# Altium integrated library Renesas Diode.IntLib: 1609 symbols (part 17 of 31)
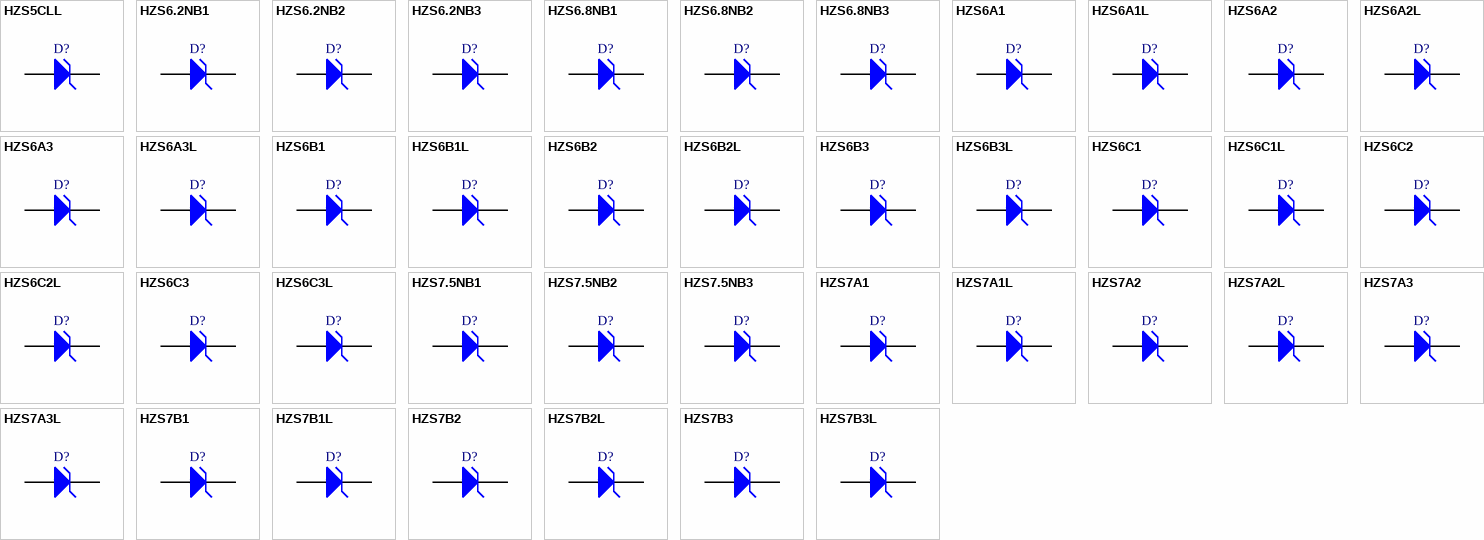
[diagram p61: symbols HZS5CLL to HZS7B3L]

## HZS5CLL
designator D?
Silicon Epitaxial Planar Zener Diode for Hard Knee Low Noise; Published: 12-Feb-2010; DatasheetVersion: Rev.3.00, Nov-2007; PackageVersion: Jul-2006; PackageReference: GRZZ0002ZC-A; Publisher: Altium Limited; PackageDescription: Diode, Axial; Body 2.4 x 2.0 mm (LxDia.), Lead Dia. 0.4 mm (nom); ComponentLink1Description: Manufacturer Link; ComponentLink1URL: http://sg.renesas.com/fmwk.jsp?cnt=diode_landing.jsp&fp=/products/discrete/diodes/; ComponentLink2Description: Datasheet; ComponentLink2URL: http://documentation.renesas.com/eng/products/diode/rej03g0167_hzs_ll.pdf; ComponentLink3Description: Packaging Specification; ComponentLink3URL: http://sg.renesas.com/media/products/common_info/package/pdf/diode/code/grzz0002zc_a.pdf
footprint GRZZ0002ZC-A (Diode, Axial; Body 2.4 x 2.2 mm (LxDia. max), Lead Dia. 0.4 mm (nom))
signal-integrity model HZS5CLL
pins: 1 K, 2 A

## HZS6.2NB1
designator D?
Silicon Epitaxial Planar Zener Diodes for Stabilized Power Supply; Published: 12-Feb-2010; DatasheetVersion: Rev.3.00, Nov-2007; PackageVersion: Jul-2006; PackageReference: GRZZ0002ZC-A; Publisher: Altium Limited; PackageDescription: Diode, Axial; Body 2.4 x 2.0 mm (LxDia.), Lead Dia. 0.4 mm (nom); ComponentLink1Description: Manufacturer Link; ComponentLink1URL: http://sg.renesas.com/fmwk.jsp?cnt=diode_landing.jsp&fp=/products/discrete/diodes/; ComponentLink2Description: Datasheet; ComponentLink2URL: http://documentation.renesas.com/eng/products/diode/rej03g0185_hzs_n.pdf; ComponentLink3Description: Packaging Specification; ComponentLink3URL: http://sg.renesas.com/media/products/common_info/package/pdf/diode/code/grzz0002zc_a.pdf
footprint GRZZ0002ZC-A (Diode, Axial; Body 2.4 x 2.2 mm (LxDia. max), Lead Dia. 0.4 mm (nom))
signal-integrity model HZS6.2NB1
pins: 1 K, 2 A

## HZS6.2NB2
designator D?
Silicon Epitaxial Planar Zener Diodes for Stabilized Power Supply; Published: 12-Feb-2010; DatasheetVersion: Rev.3.00, Nov-2007; PackageVersion: Jul-2006; PackageReference: GRZZ0002ZC-A; Publisher: Altium Limited; PackageDescription: Diode, Axial; Body 2.4 x 2.0 mm (LxDia.), Lead Dia. 0.4 mm (nom); ComponentLink1Description: Manufacturer Link; ComponentLink1URL: http://sg.renesas.com/fmwk.jsp?cnt=diode_landing.jsp&fp=/products/discrete/diodes/; ComponentLink2Description: Datasheet; ComponentLink2URL: http://documentation.renesas.com/eng/products/diode/rej03g0185_hzs_n.pdf; ComponentLink3Description: Packaging Specification; ComponentLink3URL: http://sg.renesas.com/media/products/common_info/package/pdf/diode/code/grzz0002zc_a.pdf
footprint GRZZ0002ZC-A (Diode, Axial; Body 2.4 x 2.2 mm (LxDia. max), Lead Dia. 0.4 mm (nom))
signal-integrity model HZS6.2NB2
pins: 1 K, 2 A

## HZS6.2NB3
designator D?
Silicon Epitaxial Planar Zener Diodes for Stabilized Power Supply; Published: 12-Feb-2010; DatasheetVersion: Rev.3.00, Nov-2007; PackageVersion: Jul-2006; PackageReference: GRZZ0002ZC-A; Publisher: Altium Limited; PackageDescription: Diode, Axial; Body 2.4 x 2.0 mm (LxDia.), Lead Dia. 0.4 mm (nom); ComponentLink1Description: Manufacturer Link; ComponentLink1URL: http://sg.renesas.com/fmwk.jsp?cnt=diode_landing.jsp&fp=/products/discrete/diodes/; ComponentLink2Description: Datasheet; ComponentLink2URL: http://documentation.renesas.com/eng/products/diode/rej03g0185_hzs_n.pdf; ComponentLink3Description: Packaging Specification; ComponentLink3URL: http://sg.renesas.com/media/products/common_info/package/pdf/diode/code/grzz0002zc_a.pdf
footprint GRZZ0002ZC-A (Diode, Axial; Body 2.4 x 2.2 mm (LxDia. max), Lead Dia. 0.4 mm (nom))
signal-integrity model HZS6.2NB3
pins: 1 K, 2 A

## HZS6.8NB1
designator D?
Silicon Epitaxial Planar Zener Diodes for Stabilized Power Supply; Published: 12-Feb-2010; DatasheetVersion: Rev.3.00, Nov-2007; PackageVersion: Jul-2006; PackageReference: GRZZ0002ZC-A; Publisher: Altium Limited; PackageDescription: Diode, Axial; Body 2.4 x 2.0 mm (LxDia.), Lead Dia. 0.4 mm (nom); ComponentLink1Description: Manufacturer Link; ComponentLink1URL: http://sg.renesas.com/fmwk.jsp?cnt=diode_landing.jsp&fp=/products/discrete/diodes/; ComponentLink2Description: Datasheet; ComponentLink2URL: http://documentation.renesas.com/eng/products/diode/rej03g0185_hzs_n.pdf; ComponentLink3Description: Packaging Specification; ComponentLink3URL: http://sg.renesas.com/media/products/common_info/package/pdf/diode/code/grzz0002zc_a.pdf
footprint GRZZ0002ZC-A (Diode, Axial; Body 2.4 x 2.2 mm (LxDia. max), Lead Dia. 0.4 mm (nom))
signal-integrity model HZS6.8NB1
pins: 1 K, 2 A

## HZS6.8NB2
designator D?
Silicon Epitaxial Planar Zener Diodes for Stabilized Power Supply; Published: 12-Feb-2010; DatasheetVersion: Rev.3.00, Nov-2007; PackageVersion: Jul-2006; PackageReference: GRZZ0002ZC-A; Publisher: Altium Limited; PackageDescription: Diode, Axial; Body 2.4 x 2.0 mm (LxDia.), Lead Dia. 0.4 mm (nom); ComponentLink1Description: Manufacturer Link; ComponentLink1URL: http://sg.renesas.com/fmwk.jsp?cnt=diode_landing.jsp&fp=/products/discrete/diodes/; ComponentLink2Description: Datasheet; ComponentLink2URL: http://documentation.renesas.com/eng/products/diode/rej03g0185_hzs_n.pdf; ComponentLink3Description: Packaging Specification; ComponentLink3URL: http://sg.renesas.com/media/products/common_info/package/pdf/diode/code/grzz0002zc_a.pdf
footprint GRZZ0002ZC-A (Diode, Axial; Body 2.4 x 2.2 mm (LxDia. max), Lead Dia. 0.4 mm (nom))
signal-integrity model HZS6.8NB2
pins: 1 K, 2 A

## HZS6.8NB3
designator D?
Silicon Epitaxial Planar Zener Diodes for Stabilized Power Supply; Published: 12-Feb-2010; DatasheetVersion: Rev.3.00, Nov-2007; PackageVersion: Jul-2006; PackageReference: GRZZ0002ZC-A; Publisher: Altium Limited; PackageDescription: Diode, Axial; Body 2.4 x 2.0 mm (LxDia.), Lead Dia. 0.4 mm (nom); ComponentLink1Description: Manufacturer Link; ComponentLink1URL: http://sg.renesas.com/fmwk.jsp?cnt=diode_landing.jsp&fp=/products/discrete/diodes/; ComponentLink2Description: Datasheet; ComponentLink2URL: http://documentation.renesas.com/eng/products/diode/rej03g0185_hzs_n.pdf; ComponentLink3Description: Packaging Specification; ComponentLink3URL: http://sg.renesas.com/media/products/common_info/package/pdf/diode/code/grzz0002zc_a.pdf
footprint GRZZ0002ZC-A (Diode, Axial; Body 2.4 x 2.2 mm (LxDia. max), Lead Dia. 0.4 mm (nom))
signal-integrity model HZS6.8NB3
pins: 1 K, 2 A

## HZS6A1
designator D?
Silicon Epitaxial Planar Zener Diode for Stabilized Power Supply; Published: 12-Feb-2010; DatasheetVersion: Rev.5.00, Oct-2007; PackageVersion: Jul-2006; PackageReference: GRZZ0002ZC-A; Publisher: Altium Limited; PackageDescription: Diode, Axial; Body 2.4 x 2.0 mm (LxDia.), Lead Dia. 0.4 mm (nom); ComponentLink1Description: Manufacturer Link; ComponentLink1URL: http://sg.renesas.com/fmwk.jsp?cnt=diode_landing.jsp&fp=/products/discrete/diodes/; ComponentLink2Description: Datasheet; ComponentLink2URL: http://documentation.renesas.com/eng/products/diode/rej03g0184_hzs.pdf; ComponentLink3Description: Packaging Specification; ComponentLink3URL: http://sg.renesas.com/media/products/common_info/package/pdf/diode/code/grzz0002zc_a.pdf
footprint GRZZ0002ZC-A (Diode, Axial; Body 2.4 x 2.2 mm (LxDia. max), Lead Dia. 0.4 mm (nom))
signal-integrity model HZS6A1
pins: 1 K, 2 A

## HZS6A1L
designator D?
Silicon Epitaxial Planar Zener Diode for Low Noise Application; Published: 12-Feb-2010; DatasheetVersion: Rev.3.00, Nov-2007; PackageVersion: Jul-2006; PackageReference: GRZZ0002ZC-A; Publisher: Altium Limited; PackageDescription: Diode, Axial; Body 2.4 x 2.0 mm (LxDia.), Lead Dia. 0.4 mm (nom); ComponentLink1Description: Manufacturer Link; ComponentLink1URL: http://sg.renesas.com/fmwk.jsp?cnt=diode_landing.jsp&fp=/products/discrete/diodes/; ComponentLink2Description: Datasheet; ComponentLink2URL: http://documentation.renesas.com/eng/products/diode/rej03g0166_hzs_l.pdf; ComponentLink3Description: Packaging Specification; ComponentLink3URL: http://sg.renesas.com/media/products/common_info/package/pdf/diode/code/grzz0002zc_a.pdf
footprint GRZZ0002ZC-A (Diode, Axial; Body 2.4 x 2.2 mm (LxDia. max), Lead Dia. 0.4 mm (nom))
signal-integrity model HZS6A1L
pins: 1 K, 2 A

## HZS6A2
designator D?
Silicon Epitaxial Planar Zener Diode for Stabilized Power Supply; Published: 12-Feb-2010; DatasheetVersion: Rev.5.00, Oct-2007; PackageVersion: Jul-2006; PackageReference: GRZZ0002ZC-A; Publisher: Altium Limited; PackageDescription: Diode, Axial; Body 2.4 x 2.0 mm (LxDia.), Lead Dia. 0.4 mm (nom); ComponentLink1Description: Manufacturer Link; ComponentLink1URL: http://sg.renesas.com/fmwk.jsp?cnt=diode_landing.jsp&fp=/products/discrete/diodes/; ComponentLink2Description: Datasheet; ComponentLink2URL: http://documentation.renesas.com/eng/products/diode/rej03g0184_hzs.pdf; ComponentLink3Description: Packaging Specification; ComponentLink3URL: http://sg.renesas.com/media/products/common_info/package/pdf/diode/code/grzz0002zc_a.pdf
footprint GRZZ0002ZC-A (Diode, Axial; Body 2.4 x 2.2 mm (LxDia. max), Lead Dia. 0.4 mm (nom))
signal-integrity model HZS6A2
pins: 1 K, 2 A

## HZS6A2L
designator D?
Silicon Epitaxial Planar Zener Diode for Low Noise Application; Published: 12-Feb-2010; DatasheetVersion: Rev.3.00, Nov-2007; PackageVersion: Jul-2006; PackageReference: GRZZ0002ZC-A; Publisher: Altium Limited; PackageDescription: Diode, Axial; Body 2.4 x 2.0 mm (LxDia.), Lead Dia. 0.4 mm (nom); ComponentLink1Description: Manufacturer Link; ComponentLink1URL: http://sg.renesas.com/fmwk.jsp?cnt=diode_landing.jsp&fp=/products/discrete/diodes/; ComponentLink2Description: Datasheet; ComponentLink2URL: http://documentation.renesas.com/eng/products/diode/rej03g0166_hzs_l.pdf; ComponentLink3Description: Packaging Specification; ComponentLink3URL: http://sg.renesas.com/media/products/common_info/package/pdf/diode/code/grzz0002zc_a.pdf
footprint GRZZ0002ZC-A (Diode, Axial; Body 2.4 x 2.2 mm (LxDia. max), Lead Dia. 0.4 mm (nom))
signal-integrity model HZS6A2L
pins: 1 K, 2 A

## HZS6A3
designator D?
Silicon Epitaxial Planar Zener Diode for Stabilized Power Supply; Published: 12-Feb-2010; DatasheetVersion: Rev.5.00, Oct-2007; PackageVersion: Jul-2006; PackageReference: GRZZ0002ZC-A; Publisher: Altium Limited; PackageDescription: Diode, Axial; Body 2.4 x 2.0 mm (LxDia.), Lead Dia. 0.4 mm (nom); ComponentLink1Description: Manufacturer Link; ComponentLink1URL: http://sg.renesas.com/fmwk.jsp?cnt=diode_landing.jsp&fp=/products/discrete/diodes/; ComponentLink2Description: Datasheet; ComponentLink2URL: http://documentation.renesas.com/eng/products/diode/rej03g0184_hzs.pdf; ComponentLink3Description: Packaging Specification; ComponentLink3URL: http://sg.renesas.com/media/products/common_info/package/pdf/diode/code/grzz0002zc_a.pdf
footprint GRZZ0002ZC-A (Diode, Axial; Body 2.4 x 2.2 mm (LxDia. max), Lead Dia. 0.4 mm (nom))
signal-integrity model HZS6A3
pins: 1 K, 2 A

## HZS6A3L
designator D?
Silicon Epitaxial Planar Zener Diode for Low Noise Application; Published: 12-Feb-2010; DatasheetVersion: Rev.3.00, Nov-2007; PackageVersion: Jul-2006; PackageReference: GRZZ0002ZC-A; Publisher: Altium Limited; PackageDescription: Diode, Axial; Body 2.4 x 2.0 mm (LxDia.), Lead Dia. 0.4 mm (nom); ComponentLink1Description: Manufacturer Link; ComponentLink1URL: http://sg.renesas.com/fmwk.jsp?cnt=diode_landing.jsp&fp=/products/discrete/diodes/; ComponentLink2Description: Datasheet; ComponentLink2URL: http://documentation.renesas.com/eng/products/diode/rej03g0166_hzs_l.pdf; ComponentLink3Description: Packaging Specification; ComponentLink3URL: http://sg.renesas.com/media/products/common_info/package/pdf/diode/code/grzz0002zc_a.pdf
footprint GRZZ0002ZC-A (Diode, Axial; Body 2.4 x 2.2 mm (LxDia. max), Lead Dia. 0.4 mm (nom))
signal-integrity model HZS6A3L
pins: 1 K, 2 A

## HZS6B1
designator D?
Silicon Epitaxial Planar Zener Diode for Stabilized Power Supply; Published: 12-Feb-2010; DatasheetVersion: Rev.5.00, Oct-2007; PackageVersion: Jul-2006; PackageReference: GRZZ0002ZC-A; Publisher: Altium Limited; PackageDescription: Diode, Axial; Body 2.4 x 2.0 mm (LxDia.), Lead Dia. 0.4 mm (nom); ComponentLink1Description: Manufacturer Link; ComponentLink1URL: http://sg.renesas.com/fmwk.jsp?cnt=diode_landing.jsp&fp=/products/discrete/diodes/; ComponentLink2Description: Datasheet; ComponentLink2URL: http://documentation.renesas.com/eng/products/diode/rej03g0184_hzs.pdf; ComponentLink3Description: Packaging Specification; ComponentLink3URL: http://sg.renesas.com/media/products/common_info/package/pdf/diode/code/grzz0002zc_a.pdf
footprint GRZZ0002ZC-A (Diode, Axial; Body 2.4 x 2.2 mm (LxDia. max), Lead Dia. 0.4 mm (nom))
signal-integrity model HZS6B1
pins: 1 K, 2 A

## HZS6B1L
designator D?
Silicon Epitaxial Planar Zener Diode for Low Noise Application; Published: 12-Feb-2010; DatasheetVersion: Rev.3.00, Nov-2007; PackageVersion: Jul-2006; PackageReference: GRZZ0002ZC-A; Publisher: Altium Limited; PackageDescription: Diode, Axial; Body 2.4 x 2.0 mm (LxDia.), Lead Dia. 0.4 mm (nom); ComponentLink1Description: Manufacturer Link; ComponentLink1URL: http://sg.renesas.com/fmwk.jsp?cnt=diode_landing.jsp&fp=/products/discrete/diodes/; ComponentLink2Description: Datasheet; ComponentLink2URL: http://documentation.renesas.com/eng/products/diode/rej03g0166_hzs_l.pdf; ComponentLink3Description: Packaging Specification; ComponentLink3URL: http://sg.renesas.com/media/products/common_info/package/pdf/diode/code/grzz0002zc_a.pdf
footprint GRZZ0002ZC-A (Diode, Axial; Body 2.4 x 2.2 mm (LxDia. max), Lead Dia. 0.4 mm (nom))
signal-integrity model HZS6B1L
pins: 1 K, 2 A

## HZS6B2
designator D?
Silicon Epitaxial Planar Zener Diode for Stabilized Power Supply; Published: 12-Feb-2010; DatasheetVersion: Rev.5.00, Oct-2007; PackageVersion: Jul-2006; PackageReference: GRZZ0002ZC-A; Publisher: Altium Limited; PackageDescription: Diode, Axial; Body 2.4 x 2.0 mm (LxDia.), Lead Dia. 0.4 mm (nom); ComponentLink1Description: Manufacturer Link; ComponentLink1URL: http://sg.renesas.com/fmwk.jsp?cnt=diode_landing.jsp&fp=/products/discrete/diodes/; ComponentLink2Description: Datasheet; ComponentLink2URL: http://documentation.renesas.com/eng/products/diode/rej03g0184_hzs.pdf; ComponentLink3Description: Packaging Specification; ComponentLink3URL: http://sg.renesas.com/media/products/common_info/package/pdf/diode/code/grzz0002zc_a.pdf
footprint GRZZ0002ZC-A (Diode, Axial; Body 2.4 x 2.2 mm (LxDia. max), Lead Dia. 0.4 mm (nom))
signal-integrity model HZS6B2
pins: 1 K, 2 A

## HZS6B2L
designator D?
Silicon Epitaxial Planar Zener Diode for Low Noise Application; Published: 12-Feb-2010; DatasheetVersion: Rev.3.00, Nov-2007; PackageVersion: Jul-2006; PackageReference: GRZZ0002ZC-A; Publisher: Altium Limited; PackageDescription: Diode, Axial; Body 2.4 x 2.0 mm (LxDia.), Lead Dia. 0.4 mm (nom); ComponentLink1Description: Manufacturer Link; ComponentLink1URL: http://sg.renesas.com/fmwk.jsp?cnt=diode_landing.jsp&fp=/products/discrete/diodes/; ComponentLink2Description: Datasheet; ComponentLink2URL: http://documentation.renesas.com/eng/products/diode/rej03g0166_hzs_l.pdf; ComponentLink3Description: Packaging Specification; ComponentLink3URL: http://sg.renesas.com/media/products/common_info/package/pdf/diode/code/grzz0002zc_a.pdf
footprint GRZZ0002ZC-A (Diode, Axial; Body 2.4 x 2.2 mm (LxDia. max), Lead Dia. 0.4 mm (nom))
signal-integrity model HZS6B2L
pins: 1 K, 2 A

## HZS6B3
designator D?
Silicon Epitaxial Planar Zener Diode for Stabilized Power Supply; Published: 12-Feb-2010; DatasheetVersion: Rev.5.00, Oct-2007; PackageVersion: Jul-2006; PackageReference: GRZZ0002ZC-A; Publisher: Altium Limited; PackageDescription: Diode, Axial; Body 2.4 x 2.0 mm (LxDia.), Lead Dia. 0.4 mm (nom); ComponentLink1Description: Manufacturer Link; ComponentLink1URL: http://sg.renesas.com/fmwk.jsp?cnt=diode_landing.jsp&fp=/products/discrete/diodes/; ComponentLink2Description: Datasheet; ComponentLink2URL: http://documentation.renesas.com/eng/products/diode/rej03g0184_hzs.pdf; ComponentLink3Description: Packaging Specification; ComponentLink3URL: http://sg.renesas.com/media/products/common_info/package/pdf/diode/code/grzz0002zc_a.pdf
footprint GRZZ0002ZC-A (Diode, Axial; Body 2.4 x 2.2 mm (LxDia. max), Lead Dia. 0.4 mm (nom))
signal-integrity model HZS6B3
pins: 1 K, 2 A

## HZS6B3L
designator D?
Silicon Epitaxial Planar Zener Diode for Low Noise Application; Published: 12-Feb-2010; DatasheetVersion: Rev.3.00, Nov-2007; PackageVersion: Jul-2006; PackageReference: GRZZ0002ZC-A; Publisher: Altium Limited; PackageDescription: Diode, Axial; Body 2.4 x 2.0 mm (LxDia.), Lead Dia. 0.4 mm (nom); ComponentLink1Description: Manufacturer Link; ComponentLink1URL: http://sg.renesas.com/fmwk.jsp?cnt=diode_landing.jsp&fp=/products/discrete/diodes/; ComponentLink2Description: Datasheet; ComponentLink2URL: http://documentation.renesas.com/eng/products/diode/rej03g0166_hzs_l.pdf; ComponentLink3Description: Packaging Specification; ComponentLink3URL: http://sg.renesas.com/media/products/common_info/package/pdf/diode/code/grzz0002zc_a.pdf
footprint GRZZ0002ZC-A (Diode, Axial; Body 2.4 x 2.2 mm (LxDia. max), Lead Dia. 0.4 mm (nom))
signal-integrity model HZS6B3L
pins: 1 K, 2 A

## HZS6C1
designator D?
Silicon Epitaxial Planar Zener Diode for Stabilized Power Supply; Published: 12-Feb-2010; DatasheetVersion: Rev.5.00, Oct-2007; PackageVersion: Jul-2006; PackageReference: GRZZ0002ZC-A; Publisher: Altium Limited; PackageDescription: Diode, Axial; Body 2.4 x 2.0 mm (LxDia.), Lead Dia. 0.4 mm (nom); ComponentLink1Description: Manufacturer Link; ComponentLink1URL: http://sg.renesas.com/fmwk.jsp?cnt=diode_landing.jsp&fp=/products/discrete/diodes/; ComponentLink2Description: Datasheet; ComponentLink2URL: http://documentation.renesas.com/eng/products/diode/rej03g0184_hzs.pdf; ComponentLink3Description: Packaging Specification; ComponentLink3URL: http://sg.renesas.com/media/products/common_info/package/pdf/diode/code/grzz0002zc_a.pdf
footprint GRZZ0002ZC-A (Diode, Axial; Body 2.4 x 2.2 mm (LxDia. max), Lead Dia. 0.4 mm (nom))
signal-integrity model HZS6C1
pins: 1 K, 2 A

## HZS6C1L
designator D?
Silicon Epitaxial Planar Zener Diode for Low Noise Application; Published: 12-Feb-2010; DatasheetVersion: Rev.3.00, Nov-2007; PackageVersion: Jul-2006; PackageReference: GRZZ0002ZC-A; Publisher: Altium Limited; PackageDescription: Diode, Axial; Body 2.4 x 2.0 mm (LxDia.), Lead Dia. 0.4 mm (nom); ComponentLink1Description: Manufacturer Link; ComponentLink1URL: http://sg.renesas.com/fmwk.jsp?cnt=diode_landing.jsp&fp=/products/discrete/diodes/; ComponentLink2Description: Datasheet; ComponentLink2URL: http://documentation.renesas.com/eng/products/diode/rej03g0166_hzs_l.pdf; ComponentLink3Description: Packaging Specification; ComponentLink3URL: http://sg.renesas.com/media/products/common_info/package/pdf/diode/code/grzz0002zc_a.pdf
footprint GRZZ0002ZC-A (Diode, Axial; Body 2.4 x 2.2 mm (LxDia. max), Lead Dia. 0.4 mm (nom))
signal-integrity model HZS6C1L
pins: 1 K, 2 A

## HZS6C2
designator D?
Silicon Epitaxial Planar Zener Diode for Stabilized Power Supply; Published: 12-Feb-2010; DatasheetVersion: Rev.5.00, Oct-2007; PackageVersion: Jul-2006; PackageReference: GRZZ0002ZC-A; Publisher: Altium Limited; PackageDescription: Diode, Axial; Body 2.4 x 2.0 mm (LxDia.), Lead Dia. 0.4 mm (nom); ComponentLink1Description: Manufacturer Link; ComponentLink1URL: http://sg.renesas.com/fmwk.jsp?cnt=diode_landing.jsp&fp=/products/discrete/diodes/; ComponentLink2Description: Datasheet; ComponentLink2URL: http://documentation.renesas.com/eng/products/diode/rej03g0184_hzs.pdf; ComponentLink3Description: Packaging Specification; ComponentLink3URL: http://sg.renesas.com/media/products/common_info/package/pdf/diode/code/grzz0002zc_a.pdf
footprint GRZZ0002ZC-A (Diode, Axial; Body 2.4 x 2.2 mm (LxDia. max), Lead Dia. 0.4 mm (nom))
signal-integrity model HZS6C2
pins: 1 K, 2 A

## HZS6C2L
designator D?
Silicon Epitaxial Planar Zener Diode for Low Noise Application; Published: 12-Feb-2010; DatasheetVersion: Rev.3.00, Nov-2007; PackageVersion: Jul-2006; PackageReference: GRZZ0002ZC-A; Publisher: Altium Limited; PackageDescription: Diode, Axial; Body 2.4 x 2.0 mm (LxDia.), Lead Dia. 0.4 mm (nom); ComponentLink1Description: Manufacturer Link; ComponentLink1URL: http://sg.renesas.com/fmwk.jsp?cnt=diode_landing.jsp&fp=/products/discrete/diodes/; ComponentLink2Description: Datasheet; ComponentLink2URL: http://documentation.renesas.com/eng/products/diode/rej03g0166_hzs_l.pdf; ComponentLink3Description: Packaging Specification; ComponentLink3URL: http://sg.renesas.com/media/products/common_info/package/pdf/diode/code/grzz0002zc_a.pdf
footprint GRZZ0002ZC-A (Diode, Axial; Body 2.4 x 2.2 mm (LxDia. max), Lead Dia. 0.4 mm (nom))
signal-integrity model HZS6C2L
pins: 1 K, 2 A

## HZS6C3
designator D?
Silicon Epitaxial Planar Zener Diode for Stabilized Power Supply; Published: 12-Feb-2010; DatasheetVersion: Rev.5.00, Oct-2007; PackageVersion: Jul-2006; PackageReference: GRZZ0002ZC-A; Publisher: Altium Limited; PackageDescription: Diode, Axial; Body 2.4 x 2.0 mm (LxDia.), Lead Dia. 0.4 mm (nom); ComponentLink1Description: Manufacturer Link; ComponentLink1URL: http://sg.renesas.com/fmwk.jsp?cnt=diode_landing.jsp&fp=/products/discrete/diodes/; ComponentLink2Description: Datasheet; ComponentLink2URL: http://documentation.renesas.com/eng/products/diode/rej03g0184_hzs.pdf; ComponentLink3Description: Packaging Specification; ComponentLink3URL: http://sg.renesas.com/media/products/common_info/package/pdf/diode/code/grzz0002zc_a.pdf
footprint GRZZ0002ZC-A (Diode, Axial; Body 2.4 x 2.2 mm (LxDia. max), Lead Dia. 0.4 mm (nom))
signal-integrity model HZS6C3
pins: 1 K, 2 A

## HZS6C3L
designator D?
Silicon Epitaxial Planar Zener Diode for Low Noise Application; Published: 12-Feb-2010; DatasheetVersion: Rev.3.00, Nov-2007; PackageVersion: Jul-2006; PackageReference: GRZZ0002ZC-A; Publisher: Altium Limited; PackageDescription: Diode, Axial; Body 2.4 x 2.0 mm (LxDia.), Lead Dia. 0.4 mm (nom); ComponentLink1Description: Manufacturer Link; ComponentLink1URL: http://sg.renesas.com/fmwk.jsp?cnt=diode_landing.jsp&fp=/products/discrete/diodes/; ComponentLink2Description: Datasheet; ComponentLink2URL: http://documentation.renesas.com/eng/products/diode/rej03g0166_hzs_l.pdf; ComponentLink3Description: Packaging Specification; ComponentLink3URL: http://sg.renesas.com/media/products/common_info/package/pdf/diode/code/grzz0002zc_a.pdf
footprint GRZZ0002ZC-A (Diode, Axial; Body 2.4 x 2.2 mm (LxDia. max), Lead Dia. 0.4 mm (nom))
signal-integrity model HZS6C3L
pins: 1 K, 2 A

## HZS7.5NB1
designator D?
Silicon Epitaxial Planar Zener Diodes for Stabilized Power Supply; Published: 12-Feb-2010; DatasheetVersion: Rev.3.00, Nov-2007; PackageVersion: Jul-2006; PackageReference: GRZZ0002ZC-A; Publisher: Altium Limited; PackageDescription: Diode, Axial; Body 2.4 x 2.0 mm (LxDia.), Lead Dia. 0.4 mm (nom); ComponentLink1Description: Manufacturer Link; ComponentLink1URL: http://sg.renesas.com/fmwk.jsp?cnt=diode_landing.jsp&fp=/products/discrete/diodes/; ComponentLink2Description: Datasheet; ComponentLink2URL: http://documentation.renesas.com/eng/products/diode/rej03g0185_hzs_n.pdf; ComponentLink3Description: Packaging Specification; ComponentLink3URL: http://sg.renesas.com/media/products/common_info/package/pdf/diode/code/grzz0002zc_a.pdf
footprint GRZZ0002ZC-A (Diode, Axial; Body 2.4 x 2.2 mm (LxDia. max), Lead Dia. 0.4 mm (nom))
signal-integrity model HZS7.5NB1
pins: 1 K, 2 A

## HZS7.5NB2
designator D?
Silicon Epitaxial Planar Zener Diodes for Stabilized Power Supply; Published: 12-Feb-2010; DatasheetVersion: Rev.3.00, Nov-2007; PackageVersion: Jul-2006; PackageReference: GRZZ0002ZC-A; Publisher: Altium Limited; PackageDescription: Diode, Axial; Body 2.4 x 2.0 mm (LxDia.), Lead Dia. 0.4 mm (nom); ComponentLink1Description: Manufacturer Link; ComponentLink1URL: http://sg.renesas.com/fmwk.jsp?cnt=diode_landing.jsp&fp=/products/discrete/diodes/; ComponentLink2Description: Datasheet; ComponentLink2URL: http://documentation.renesas.com/eng/products/diode/rej03g0185_hzs_n.pdf; ComponentLink3Description: Packaging Specification; ComponentLink3URL: http://sg.renesas.com/media/products/common_info/package/pdf/diode/code/grzz0002zc_a.pdf
footprint GRZZ0002ZC-A (Diode, Axial; Body 2.4 x 2.2 mm (LxDia. max), Lead Dia. 0.4 mm (nom))
signal-integrity model HZS7.5NB2
pins: 1 K, 2 A

## HZS7.5NB3
designator D?
Silicon Epitaxial Planar Zener Diodes for Stabilized Power Supply; Published: 12-Feb-2010; DatasheetVersion: Rev.3.00, Nov-2007; PackageVersion: Jul-2006; PackageReference: GRZZ0002ZC-A; Publisher: Altium Limited; PackageDescription: Diode, Axial; Body 2.4 x 2.0 mm (LxDia.), Lead Dia. 0.4 mm (nom); ComponentLink1Description: Manufacturer Link; ComponentLink1URL: http://sg.renesas.com/fmwk.jsp?cnt=diode_landing.jsp&fp=/products/discrete/diodes/; ComponentLink2Description: Datasheet; ComponentLink2URL: http://documentation.renesas.com/eng/products/diode/rej03g0185_hzs_n.pdf; ComponentLink3Description: Packaging Specification; ComponentLink3URL: http://sg.renesas.com/media/products/common_info/package/pdf/diode/code/grzz0002zc_a.pdf
footprint GRZZ0002ZC-A (Diode, Axial; Body 2.4 x 2.2 mm (LxDia. max), Lead Dia. 0.4 mm (nom))
signal-integrity model HZS7.5NB3
pins: 1 K, 2 A

## HZS7A1
designator D?
Silicon Epitaxial Planar Zener Diode for Stabilized Power Supply; Published: 12-Feb-2010; DatasheetVersion: Rev.5.00, Oct-2007; PackageVersion: Jul-2006; PackageReference: GRZZ0002ZC-A; Publisher: Altium Limited; PackageDescription: Diode, Axial; Body 2.4 x 2.0 mm (LxDia.), Lead Dia. 0.4 mm (nom); ComponentLink1Description: Manufacturer Link; ComponentLink1URL: http://sg.renesas.com/fmwk.jsp?cnt=diode_landing.jsp&fp=/products/discrete/diodes/; ComponentLink2Description: Datasheet; ComponentLink2URL: http://documentation.renesas.com/eng/products/diode/rej03g0184_hzs.pdf; ComponentLink3Description: Packaging Specification; ComponentLink3URL: http://sg.renesas.com/media/products/common_info/package/pdf/diode/code/grzz0002zc_a.pdf
footprint GRZZ0002ZC-A (Diode, Axial; Body 2.4 x 2.2 mm (LxDia. max), Lead Dia. 0.4 mm (nom))
signal-integrity model HZS7A1
pins: 1 K, 2 A

## HZS7A1L
designator D?
Silicon Epitaxial Planar Zener Diode for Low Noise Application; Published: 12-Feb-2010; DatasheetVersion: Rev.3.00, Nov-2007; PackageVersion: Jul-2006; PackageReference: GRZZ0002ZC-A; Publisher: Altium Limited; PackageDescription: Diode, Axial; Body 2.4 x 2.0 mm (LxDia.), Lead Dia. 0.4 mm (nom); ComponentLink1Description: Manufacturer Link; ComponentLink1URL: http://sg.renesas.com/fmwk.jsp?cnt=diode_landing.jsp&fp=/products/discrete/diodes/; ComponentLink2Description: Datasheet; ComponentLink2URL: http://documentation.renesas.com/eng/products/diode/rej03g0166_hzs_l.pdf; ComponentLink3Description: Packaging Specification; ComponentLink3URL: http://sg.renesas.com/media/products/common_info/package/pdf/diode/code/grzz0002zc_a.pdf
footprint GRZZ0002ZC-A (Diode, Axial; Body 2.4 x 2.2 mm (LxDia. max), Lead Dia. 0.4 mm (nom))
signal-integrity model HZS7A1L
pins: 1 K, 2 A

## HZS7A2
designator D?
Silicon Epitaxial Planar Zener Diode for Stabilized Power Supply; Published: 12-Feb-2010; DatasheetVersion: Rev.5.00, Oct-2007; PackageVersion: Jul-2006; PackageReference: GRZZ0002ZC-A; Publisher: Altium Limited; PackageDescription: Diode, Axial; Body 2.4 x 2.0 mm (LxDia.), Lead Dia. 0.4 mm (nom); ComponentLink1Description: Manufacturer Link; ComponentLink1URL: http://sg.renesas.com/fmwk.jsp?cnt=diode_landing.jsp&fp=/products/discrete/diodes/; ComponentLink2Description: Datasheet; ComponentLink2URL: http://documentation.renesas.com/eng/products/diode/rej03g0184_hzs.pdf; ComponentLink3Description: Packaging Specification; ComponentLink3URL: http://sg.renesas.com/media/products/common_info/package/pdf/diode/code/grzz0002zc_a.pdf
footprint GRZZ0002ZC-A (Diode, Axial; Body 2.4 x 2.2 mm (LxDia. max), Lead Dia. 0.4 mm (nom))
signal-integrity model HZS7A2
pins: 1 K, 2 A

## HZS7A2L
designator D?
Silicon Epitaxial Planar Zener Diode for Low Noise Application; Published: 12-Feb-2010; DatasheetVersion: Rev.3.00, Nov-2007; PackageVersion: Jul-2006; PackageReference: GRZZ0002ZC-A; Publisher: Altium Limited; PackageDescription: Diode, Axial; Body 2.4 x 2.0 mm (LxDia.), Lead Dia. 0.4 mm (nom); ComponentLink1Description: Manufacturer Link; ComponentLink1URL: http://sg.renesas.com/fmwk.jsp?cnt=diode_landing.jsp&fp=/products/discrete/diodes/; ComponentLink2Description: Datasheet; ComponentLink2URL: http://documentation.renesas.com/eng/products/diode/rej03g0166_hzs_l.pdf; ComponentLink3Description: Packaging Specification; ComponentLink3URL: http://sg.renesas.com/media/products/common_info/package/pdf/diode/code/grzz0002zc_a.pdf
footprint GRZZ0002ZC-A (Diode, Axial; Body 2.4 x 2.2 mm (LxDia. max), Lead Dia. 0.4 mm (nom))
signal-integrity model HZS7A2L
pins: 1 K, 2 A

## HZS7A3
designator D?
Silicon Epitaxial Planar Zener Diode for Stabilized Power Supply; Published: 12-Feb-2010; DatasheetVersion: Rev.5.00, Oct-2007; PackageVersion: Jul-2006; PackageReference: GRZZ0002ZC-A; Publisher: Altium Limited; PackageDescription: Diode, Axial; Body 2.4 x 2.0 mm (LxDia.), Lead Dia. 0.4 mm (nom); ComponentLink1Description: Manufacturer Link; ComponentLink1URL: http://sg.renesas.com/fmwk.jsp?cnt=diode_landing.jsp&fp=/products/discrete/diodes/; ComponentLink2Description: Datasheet; ComponentLink2URL: http://documentation.renesas.com/eng/products/diode/rej03g0184_hzs.pdf; ComponentLink3Description: Packaging Specification; ComponentLink3URL: http://sg.renesas.com/media/products/common_info/package/pdf/diode/code/grzz0002zc_a.pdf
footprint GRZZ0002ZC-A (Diode, Axial; Body 2.4 x 2.2 mm (LxDia. max), Lead Dia. 0.4 mm (nom))
signal-integrity model HZS7A3
pins: 1 K, 2 A

## HZS7A3L
designator D?
Silicon Epitaxial Planar Zener Diode for Low Noise Application; Published: 12-Feb-2010; DatasheetVersion: Rev.3.00, Nov-2007; PackageVersion: Jul-2006; PackageReference: GRZZ0002ZC-A; Publisher: Altium Limited; PackageDescription: Diode, Axial; Body 2.4 x 2.0 mm (LxDia.), Lead Dia. 0.4 mm (nom); ComponentLink1Description: Manufacturer Link; ComponentLink1URL: http://sg.renesas.com/fmwk.jsp?cnt=diode_landing.jsp&fp=/products/discrete/diodes/; ComponentLink2Description: Datasheet; ComponentLink2URL: http://documentation.renesas.com/eng/products/diode/rej03g0166_hzs_l.pdf; ComponentLink3Description: Packaging Specification; ComponentLink3URL: http://sg.renesas.com/media/products/common_info/package/pdf/diode/code/grzz0002zc_a.pdf
footprint GRZZ0002ZC-A (Diode, Axial; Body 2.4 x 2.2 mm (LxDia. max), Lead Dia. 0.4 mm (nom))
signal-integrity model HZS7A3L
pins: 1 K, 2 A

## HZS7B1
designator D?
Silicon Epitaxial Planar Zener Diode for Stabilized Power Supply; Published: 12-Feb-2010; DatasheetVersion: Rev.5.00, Oct-2007; PackageVersion: Jul-2006; PackageReference: GRZZ0002ZC-A; Publisher: Altium Limited; PackageDescription: Diode, Axial; Body 2.4 x 2.0 mm (LxDia.), Lead Dia. 0.4 mm (nom); ComponentLink1Description: Manufacturer Link; ComponentLink1URL: http://sg.renesas.com/fmwk.jsp?cnt=diode_landing.jsp&fp=/products/discrete/diodes/; ComponentLink2Description: Datasheet; ComponentLink2URL: http://documentation.renesas.com/eng/products/diode/rej03g0184_hzs.pdf; ComponentLink3Description: Packaging Specification; ComponentLink3URL: http://sg.renesas.com/media/products/common_info/package/pdf/diode/code/grzz0002zc_a.pdf
footprint GRZZ0002ZC-A (Diode, Axial; Body 2.4 x 2.2 mm (LxDia. max), Lead Dia. 0.4 mm (nom))
signal-integrity model HZS7B1
pins: 1 K, 2 A

## HZS7B1L
designator D?
Silicon Epitaxial Planar Zener Diode for Low Noise Application; Published: 12-Feb-2010; DatasheetVersion: Rev.3.00, Nov-2007; PackageVersion: Jul-2006; PackageReference: GRZZ0002ZC-A; Publisher: Altium Limited; PackageDescription: Diode, Axial; Body 2.4 x 2.0 mm (LxDia.), Lead Dia. 0.4 mm (nom); ComponentLink1Description: Manufacturer Link; ComponentLink1URL: http://sg.renesas.com/fmwk.jsp?cnt=diode_landing.jsp&fp=/products/discrete/diodes/; ComponentLink2Description: Datasheet; ComponentLink2URL: http://documentation.renesas.com/eng/products/diode/rej03g0166_hzs_l.pdf; ComponentLink3Description: Packaging Specification; ComponentLink3URL: http://sg.renesas.com/media/products/common_info/package/pdf/diode/code/grzz0002zc_a.pdf
footprint GRZZ0002ZC-A (Diode, Axial; Body 2.4 x 2.2 mm (LxDia. max), Lead Dia. 0.4 mm (nom))
signal-integrity model HZS7B1L
pins: 1 K, 2 A

## HZS7B2
designator D?
Silicon Epitaxial Planar Zener Diode for Stabilized Power Supply; Published: 12-Feb-2010; DatasheetVersion: Rev.5.00, Oct-2007; PackageVersion: Jul-2006; PackageReference: GRZZ0002ZC-A; Publisher: Altium Limited; PackageDescription: Diode, Axial; Body 2.4 x 2.0 mm (LxDia.), Lead Dia. 0.4 mm (nom); ComponentLink1Description: Manufacturer Link; ComponentLink1URL: http://sg.renesas.com/fmwk.jsp?cnt=diode_landing.jsp&fp=/products/discrete/diodes/; ComponentLink2Description: Datasheet; ComponentLink2URL: http://documentation.renesas.com/eng/products/diode/rej03g0184_hzs.pdf; ComponentLink3Description: Packaging Specification; ComponentLink3URL: http://sg.renesas.com/media/products/common_info/package/pdf/diode/code/grzz0002zc_a.pdf
footprint GRZZ0002ZC-A (Diode, Axial; Body 2.4 x 2.2 mm (LxDia. max), Lead Dia. 0.4 mm (nom))
signal-integrity model HZS7B2
pins: 1 K, 2 A

## HZS7B2L
designator D?
Silicon Epitaxial Planar Zener Diode for Low Noise Application; Published: 12-Feb-2010; DatasheetVersion: Rev.3.00, Nov-2007; PackageVersion: Jul-2006; PackageReference: GRZZ0002ZC-A; Publisher: Altium Limited; PackageDescription: Diode, Axial; Body 2.4 x 2.0 mm (LxDia.), Lead Dia. 0.4 mm (nom); ComponentLink1Description: Manufacturer Link; ComponentLink1URL: http://sg.renesas.com/fmwk.jsp?cnt=diode_landing.jsp&fp=/products/discrete/diodes/; ComponentLink2Description: Datasheet; ComponentLink2URL: http://documentation.renesas.com/eng/products/diode/rej03g0166_hzs_l.pdf; ComponentLink3Description: Packaging Specification; ComponentLink3URL: http://sg.renesas.com/media/products/common_info/package/pdf/diode/code/grzz0002zc_a.pdf
footprint GRZZ0002ZC-A (Diode, Axial; Body 2.4 x 2.2 mm (LxDia. max), Lead Dia. 0.4 mm (nom))
signal-integrity model HZS7B2L
pins: 1 K, 2 A

## HZS7B3
designator D?
Silicon Epitaxial Planar Zener Diode for Stabilized Power Supply; Published: 12-Feb-2010; DatasheetVersion: Rev.5.00, Oct-2007; PackageVersion: Jul-2006; PackageReference: GRZZ0002ZC-A; Publisher: Altium Limited; PackageDescription: Diode, Axial; Body 2.4 x 2.0 mm (LxDia.), Lead Dia. 0.4 mm (nom); ComponentLink1Description: Manufacturer Link; ComponentLink1URL: http://sg.renesas.com/fmwk.jsp?cnt=diode_landing.jsp&fp=/products/discrete/diodes/; ComponentLink2Description: Datasheet; ComponentLink2URL: http://documentation.renesas.com/eng/products/diode/rej03g0184_hzs.pdf; ComponentLink3Description: Packaging Specification; ComponentLink3URL: http://sg.renesas.com/media/products/common_info/package/pdf/diode/code/grzz0002zc_a.pdf
footprint GRZZ0002ZC-A (Diode, Axial; Body 2.4 x 2.2 mm (LxDia. max), Lead Dia. 0.4 mm (nom))
signal-integrity model HZS7B3
pins: 1 K, 2 A

## HZS7B3L
designator D?
Silicon Epitaxial Planar Zener Diode for Low Noise Application; Published: 12-Feb-2010; DatasheetVersion: Rev.3.00, Nov-2007; PackageVersion: Jul-2006; PackageReference: GRZZ0002ZC-A; Publisher: Altium Limited; PackageDescription: Diode, Axial; Body 2.4 x 2.0 mm (LxDia.), Lead Dia. 0.4 mm (nom); ComponentLink1Description: Manufacturer Link; ComponentLink1URL: http://sg.renesas.com/fmwk.jsp?cnt=diode_landing.jsp&fp=/products/discrete/diodes/; ComponentLink2Description: Datasheet; ComponentLink2URL: http://documentation.renesas.com/eng/products/diode/rej03g0166_hzs_l.pdf; ComponentLink3Description: Packaging Specification; ComponentLink3URL: http://sg.renesas.com/media/products/common_info/package/pdf/diode/code/grzz0002zc_a.pdf
footprint GRZZ0002ZC-A (Diode, Axial; Body 2.4 x 2.2 mm (LxDia. max), Lead Dia. 0.4 mm (nom))
signal-integrity model HZS7B3L
pins: 1 K, 2 A

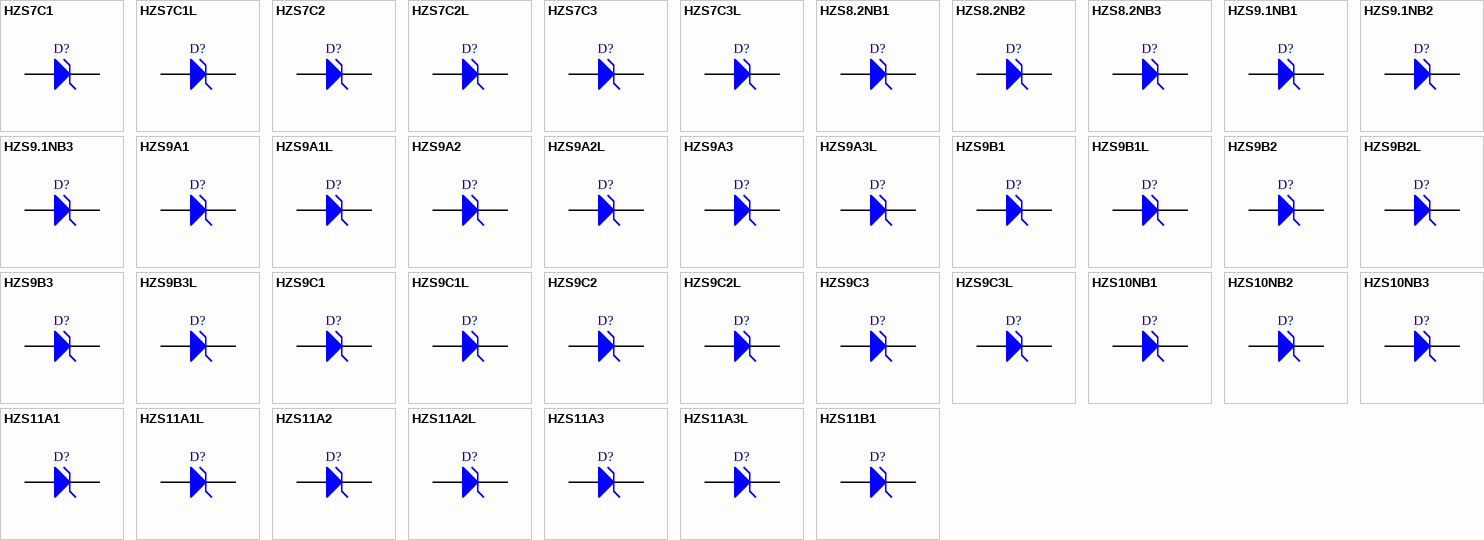
[diagram p24: symbols HZS7C1 to HZS11B1]

## HZS7C1
designator D?
Silicon Epitaxial Planar Zener Diode for Stabilized Power Supply; Published: 12-Feb-2010; DatasheetVersion: Rev.5.00, Oct-2007; PackageVersion: Jul-2006; PackageReference: GRZZ0002ZC-A; Publisher: Altium Limited; PackageDescription: Diode, Axial; Body 2.4 x 2.0 mm (LxDia.), Lead Dia. 0.4 mm (nom); ComponentLink1Description: Manufacturer Link; ComponentLink1URL: http://sg.renesas.com/fmwk.jsp?cnt=diode_landing.jsp&fp=/products/discrete/diodes/; ComponentLink2Description: Datasheet; ComponentLink2URL: http://documentation.renesas.com/eng/products/diode/rej03g0184_hzs.pdf; ComponentLink3Description: Packaging Specification; ComponentLink3URL: http://sg.renesas.com/media/products/common_info/package/pdf/diode/code/grzz0002zc_a.pdf
footprint GRZZ0002ZC-A (Diode, Axial; Body 2.4 x 2.2 mm (LxDia. max), Lead Dia. 0.4 mm (nom))
signal-integrity model HZS7C1
pins: 1 K, 2 A

## HZS7C1L
designator D?
Silicon Epitaxial Planar Zener Diode for Low Noise Application; Published: 12-Feb-2010; DatasheetVersion: Rev.3.00, Nov-2007; PackageVersion: Jul-2006; PackageReference: GRZZ0002ZC-A; Publisher: Altium Limited; PackageDescription: Diode, Axial; Body 2.4 x 2.0 mm (LxDia.), Lead Dia. 0.4 mm (nom); ComponentLink1Description: Manufacturer Link; ComponentLink1URL: http://sg.renesas.com/fmwk.jsp?cnt=diode_landing.jsp&fp=/products/discrete/diodes/; ComponentLink2Description: Datasheet; ComponentLink2URL: http://documentation.renesas.com/eng/products/diode/rej03g0166_hzs_l.pdf; ComponentLink3Description: Packaging Specification; ComponentLink3URL: http://sg.renesas.com/media/products/common_info/package/pdf/diode/code/grzz0002zc_a.pdf
footprint GRZZ0002ZC-A (Diode, Axial; Body 2.4 x 2.2 mm (LxDia. max), Lead Dia. 0.4 mm (nom))
signal-integrity model HZS7C1L
pins: 1 K, 2 A

## HZS7C2
designator D?
Silicon Epitaxial Planar Zener Diode for Stabilized Power Supply; Published: 12-Feb-2010; DatasheetVersion: Rev.5.00, Oct-2007; PackageVersion: Jul-2006; PackageReference: GRZZ0002ZC-A; Publisher: Altium Limited; PackageDescription: Diode, Axial; Body 2.4 x 2.0 mm (LxDia.), Lead Dia. 0.4 mm (nom); ComponentLink1Description: Manufacturer Link; ComponentLink1URL: http://sg.renesas.com/fmwk.jsp?cnt=diode_landing.jsp&fp=/products/discrete/diodes/; ComponentLink2Description: Datasheet; ComponentLink2URL: http://documentation.renesas.com/eng/products/diode/rej03g0184_hzs.pdf; ComponentLink3Description: Packaging Specification; ComponentLink3URL: http://sg.renesas.com/media/products/common_info/package/pdf/diode/code/grzz0002zc_a.pdf
footprint GRZZ0002ZC-A (Diode, Axial; Body 2.4 x 2.2 mm (LxDia. max), Lead Dia. 0.4 mm (nom))
signal-integrity model HZS7C2
pins: 1 K, 2 A

## HZS7C2L
designator D?
Silicon Epitaxial Planar Zener Diode for Low Noise Application; Published: 12-Feb-2010; DatasheetVersion: Rev.3.00, Nov-2007; PackageVersion: Jul-2006; PackageReference: GRZZ0002ZC-A; Publisher: Altium Limited; PackageDescription: Diode, Axial; Body 2.4 x 2.0 mm (LxDia.), Lead Dia. 0.4 mm (nom); ComponentLink1Description: Manufacturer Link; ComponentLink1URL: http://sg.renesas.com/fmwk.jsp?cnt=diode_landing.jsp&fp=/products/discrete/diodes/; ComponentLink2Description: Datasheet; ComponentLink2URL: http://documentation.renesas.com/eng/products/diode/rej03g0166_hzs_l.pdf; ComponentLink3Description: Packaging Specification; ComponentLink3URL: http://sg.renesas.com/media/products/common_info/package/pdf/diode/code/grzz0002zc_a.pdf
footprint GRZZ0002ZC-A (Diode, Axial; Body 2.4 x 2.2 mm (LxDia. max), Lead Dia. 0.4 mm (nom))
signal-integrity model HZS7C2L
pins: 1 K, 2 A

## HZS7C3
designator D?
Silicon Epitaxial Planar Zener Diode for Stabilized Power Supply; Published: 12-Feb-2010; DatasheetVersion: Rev.5.00, Oct-2007; PackageVersion: Jul-2006; PackageReference: GRZZ0002ZC-A; Publisher: Altium Limited; PackageDescription: Diode, Axial; Body 2.4 x 2.0 mm (LxDia.), Lead Dia. 0.4 mm (nom); ComponentLink1Description: Manufacturer Link; ComponentLink1URL: http://sg.renesas.com/fmwk.jsp?cnt=diode_landing.jsp&fp=/products/discrete/diodes/; ComponentLink2Description: Datasheet; ComponentLink2URL: http://documentation.renesas.com/eng/products/diode/rej03g0184_hzs.pdf; ComponentLink3Description: Packaging Specification; ComponentLink3URL: http://sg.renesas.com/media/products/common_info/package/pdf/diode/code/grzz0002zc_a.pdf
footprint GRZZ0002ZC-A (Diode, Axial; Body 2.4 x 2.2 mm (LxDia. max), Lead Dia. 0.4 mm (nom))
signal-integrity model HZS7C3
pins: 1 K, 2 A

## HZS7C3L
designator D?
Silicon Epitaxial Planar Zener Diode for Low Noise Application; Published: 12-Feb-2010; DatasheetVersion: Rev.3.00, Nov-2007; PackageVersion: Jul-2006; PackageReference: GRZZ0002ZC-A; Publisher: Altium Limited; PackageDescription: Diode, Axial; Body 2.4 x 2.0 mm (LxDia.), Lead Dia. 0.4 mm (nom); ComponentLink1Description: Manufacturer Link; ComponentLink1URL: http://sg.renesas.com/fmwk.jsp?cnt=diode_landing.jsp&fp=/products/discrete/diodes/; ComponentLink2Description: Datasheet; ComponentLink2URL: http://documentation.renesas.com/eng/products/diode/rej03g0166_hzs_l.pdf; ComponentLink3Description: Packaging Specification; ComponentLink3URL: http://sg.renesas.com/media/products/common_info/package/pdf/diode/code/grzz0002zc_a.pdf
footprint GRZZ0002ZC-A (Diode, Axial; Body 2.4 x 2.2 mm (LxDia. max), Lead Dia. 0.4 mm (nom))
signal-integrity model HZS7C3L
pins: 1 K, 2 A

## HZS8.2NB1
designator D?
Silicon Epitaxial Planar Zener Diodes for Stabilized Power Supply; Published: 12-Feb-2010; DatasheetVersion: Rev.3.00, Nov-2007; PackageVersion: Jul-2006; PackageReference: GRZZ0002ZC-A; Publisher: Altium Limited; PackageDescription: Diode, Axial; Body 2.4 x 2.0 mm (LxDia.), Lead Dia. 0.4 mm (nom); ComponentLink1Description: Manufacturer Link; ComponentLink1URL: http://sg.renesas.com/fmwk.jsp?cnt=diode_landing.jsp&fp=/products/discrete/diodes/; ComponentLink2Description: Datasheet; ComponentLink2URL: http://documentation.renesas.com/eng/products/diode/rej03g0185_hzs_n.pdf; ComponentLink3Description: Packaging Specification; ComponentLink3URL: http://sg.renesas.com/media/products/common_info/package/pdf/diode/code/grzz0002zc_a.pdf
footprint GRZZ0002ZC-A (Diode, Axial; Body 2.4 x 2.2 mm (LxDia. max), Lead Dia. 0.4 mm (nom))
signal-integrity model HZS8.2NB1
pins: 1 K, 2 A

## HZS8.2NB2
designator D?
Silicon Epitaxial Planar Zener Diodes for Stabilized Power Supply; Published: 12-Feb-2010; DatasheetVersion: Rev.3.00, Nov-2007; PackageVersion: Jul-2006; PackageReference: GRZZ0002ZC-A; Publisher: Altium Limited; PackageDescription: Diode, Axial; Body 2.4 x 2.0 mm (LxDia.), Lead Dia. 0.4 mm (nom); ComponentLink1Description: Manufacturer Link; ComponentLink1URL: http://sg.renesas.com/fmwk.jsp?cnt=diode_landing.jsp&fp=/products/discrete/diodes/; ComponentLink2Description: Datasheet; ComponentLink2URL: http://documentation.renesas.com/eng/products/diode/rej03g0185_hzs_n.pdf; ComponentLink3Description: Packaging Specification; ComponentLink3URL: http://sg.renesas.com/media/products/common_info/package/pdf/diode/code/grzz0002zc_a.pdf
footprint GRZZ0002ZC-A (Diode, Axial; Body 2.4 x 2.2 mm (LxDia. max), Lead Dia. 0.4 mm (nom))
signal-integrity model HZS8.2NB2
pins: 1 K, 2 A

## HZS8.2NB3
designator D?
Silicon Epitaxial Planar Zener Diodes for Stabilized Power Supply; Published: 12-Feb-2010; DatasheetVersion: Rev.3.00, Nov-2007; PackageVersion: Jul-2006; PackageReference: GRZZ0002ZC-A; Publisher: Altium Limited; PackageDescription: Diode, Axial; Body 2.4 x 2.0 mm (LxDia.), Lead Dia. 0.4 mm (nom); ComponentLink1Description: Manufacturer Link; ComponentLink1URL: http://sg.renesas.com/fmwk.jsp?cnt=diode_landing.jsp&fp=/products/discrete/diodes/; ComponentLink2Description: Datasheet; ComponentLink2URL: http://documentation.renesas.com/eng/products/diode/rej03g0185_hzs_n.pdf; ComponentLink3Description: Packaging Specification; ComponentLink3URL: http://sg.renesas.com/media/products/common_info/package/pdf/diode/code/grzz0002zc_a.pdf
footprint GRZZ0002ZC-A (Diode, Axial; Body 2.4 x 2.2 mm (LxDia. max), Lead Dia. 0.4 mm (nom))
signal-integrity model HZS8.2NB3
pins: 1 K, 2 A

## HZS9.1NB1
designator D?
Silicon Epitaxial Planar Zener Diodes for Stabilized Power Supply; Published: 12-Feb-2010; DatasheetVersion: Rev.3.00, Nov-2007; PackageVersion: Jul-2006; PackageReference: GRZZ0002ZC-A; Publisher: Altium Limited; PackageDescription: Diode, Axial; Body 2.4 x 2.0 mm (LxDia.), Lead Dia. 0.4 mm (nom); ComponentLink1Description: Manufacturer Link; ComponentLink1URL: http://sg.renesas.com/fmwk.jsp?cnt=diode_landing.jsp&fp=/products/discrete/diodes/; ComponentLink2Description: Datasheet; ComponentLink2URL: http://documentation.renesas.com/eng/products/diode/rej03g0185_hzs_n.pdf; ComponentLink3Description: Packaging Specification; ComponentLink3URL: http://sg.renesas.com/media/products/common_info/package/pdf/diode/code/grzz0002zc_a.pdf
footprint GRZZ0002ZC-A (Diode, Axial; Body 2.4 x 2.2 mm (LxDia. max), Lead Dia. 0.4 mm (nom))
signal-integrity model HZS9.1NB1
pins: 1 K, 2 A

## HZS9.1NB2
designator D?
Silicon Epitaxial Planar Zener Diodes for Stabilized Power Supply; Published: 12-Feb-2010; DatasheetVersion: Rev.3.00, Nov-2007; PackageVersion: Jul-2006; PackageReference: GRZZ0002ZC-A; Publisher: Altium Limited; PackageDescription: Diode, Axial; Body 2.4 x 2.0 mm (LxDia.), Lead Dia. 0.4 mm (nom); ComponentLink1Description: Manufacturer Link; ComponentLink1URL: http://sg.renesas.com/fmwk.jsp?cnt=diode_landing.jsp&fp=/products/discrete/diodes/; ComponentLink2Description: Datasheet; ComponentLink2URL: http://documentation.renesas.com/eng/products/diode/rej03g0185_hzs_n.pdf; ComponentLink3Description: Packaging Specification; ComponentLink3URL: http://sg.renesas.com/media/products/common_info/package/pdf/diode/code/grzz0002zc_a.pdf
footprint GRZZ0002ZC-A (Diode, Axial; Body 2.4 x 2.2 mm (LxDia. max), Lead Dia. 0.4 mm (nom))
signal-integrity model HZS9.1NB2
pins: 1 K, 2 A

## HZS9.1NB3
designator D?
Silicon Epitaxial Planar Zener Diodes for Stabilized Power Supply; Published: 12-Feb-2010; DatasheetVersion: Rev.3.00, Nov-2007; PackageVersion: Jul-2006; PackageReference: GRZZ0002ZC-A; Publisher: Altium Limited; PackageDescription: Diode, Axial; Body 2.4 x 2.0 mm (LxDia.), Lead Dia. 0.4 mm (nom); ComponentLink1Description: Manufacturer Link; ComponentLink1URL: http://sg.renesas.com/fmwk.jsp?cnt=diode_landing.jsp&fp=/products/discrete/diodes/; ComponentLink2Description: Datasheet; ComponentLink2URL: http://documentation.renesas.com/eng/products/diode/rej03g0185_hzs_n.pdf; ComponentLink3Description: Packaging Specification; ComponentLink3URL: http://sg.renesas.com/media/products/common_info/package/pdf/diode/code/grzz0002zc_a.pdf
footprint GRZZ0002ZC-A (Diode, Axial; Body 2.4 x 2.2 mm (LxDia. max), Lead Dia. 0.4 mm (nom))
signal-integrity model HZS9.1NB3
pins: 1 K, 2 A

## HZS9A1
designator D?
Silicon Epitaxial Planar Zener Diode for Stabilized Power Supply; Published: 12-Feb-2010; DatasheetVersion: Rev.5.00, Oct-2007; PackageVersion: Jul-2006; PackageReference: GRZZ0002ZC-A; Publisher: Altium Limited; PackageDescription: Diode, Axial; Body 2.4 x 2.0 mm (LxDia.), Lead Dia. 0.4 mm (nom); ComponentLink1Description: Manufacturer Link; ComponentLink1URL: http://sg.renesas.com/fmwk.jsp?cnt=diode_landing.jsp&fp=/products/discrete/diodes/; ComponentLink2Description: Datasheet; ComponentLink2URL: http://documentation.renesas.com/eng/products/diode/rej03g0184_hzs.pdf; ComponentLink3Description: Packaging Specification; ComponentLink3URL: http://sg.renesas.com/media/products/common_info/package/pdf/diode/code/grzz0002zc_a.pdf
footprint GRZZ0002ZC-A (Diode, Axial; Body 2.4 x 2.2 mm (LxDia. max), Lead Dia. 0.4 mm (nom))
signal-integrity model HZS9A1
pins: 1 K, 2 A

## HZS9A1L
designator D?
Silicon Epitaxial Planar Zener Diode for Low Noise Application; Published: 12-Feb-2010; DatasheetVersion: Rev.3.00, Nov-2007; PackageVersion: Jul-2006; PackageReference: GRZZ0002ZC-A; Publisher: Altium Limited; PackageDescription: Diode, Axial; Body 2.4 x 2.0 mm (LxDia.), Lead Dia. 0.4 mm (nom); ComponentLink1Description: Manufacturer Link; ComponentLink1URL: http://sg.renesas.com/fmwk.jsp?cnt=diode_landing.jsp&fp=/products/discrete/diodes/; ComponentLink2Description: Datasheet; ComponentLink2URL: http://documentation.renesas.com/eng/products/diode/rej03g0166_hzs_l.pdf; ComponentLink3Description: Packaging Specification; ComponentLink3URL: http://sg.renesas.com/media/products/common_info/package/pdf/diode/code/grzz0002zc_a.pdf
footprint GRZZ0002ZC-A (Diode, Axial; Body 2.4 x 2.2 mm (LxDia. max), Lead Dia. 0.4 mm (nom))
signal-integrity model HZS9A1L
pins: 1 K, 2 A

## HZS9A2
designator D?
Silicon Epitaxial Planar Zener Diode for Stabilized Power Supply; Published: 12-Feb-2010; DatasheetVersion: Rev.5.00, Oct-2007; PackageVersion: Jul-2006; PackageReference: GRZZ0002ZC-A; Publisher: Altium Limited; PackageDescription: Diode, Axial; Body 2.4 x 2.0 mm (LxDia.), Lead Dia. 0.4 mm (nom); ComponentLink1Description: Manufacturer Link; ComponentLink1URL: http://sg.renesas.com/fmwk.jsp?cnt=diode_landing.jsp&fp=/products/discrete/diodes/; ComponentLink2Description: Datasheet; ComponentLink2URL: http://documentation.renesas.com/eng/products/diode/rej03g0184_hzs.pdf; ComponentLink3Description: Packaging Specification; ComponentLink3URL: http://sg.renesas.com/media/products/common_info/package/pdf/diode/code/grzz0002zc_a.pdf
footprint GRZZ0002ZC-A (Diode, Axial; Body 2.4 x 2.2 mm (LxDia. max), Lead Dia. 0.4 mm (nom))
signal-integrity model HZS9A2
pins: 1 K, 2 A